# Altium integrated library WE-PD2SR Shielded Power Inductor.IntLib: 20 symbols
Pins are listed as number, name and electrical type; pins without a type are passive.

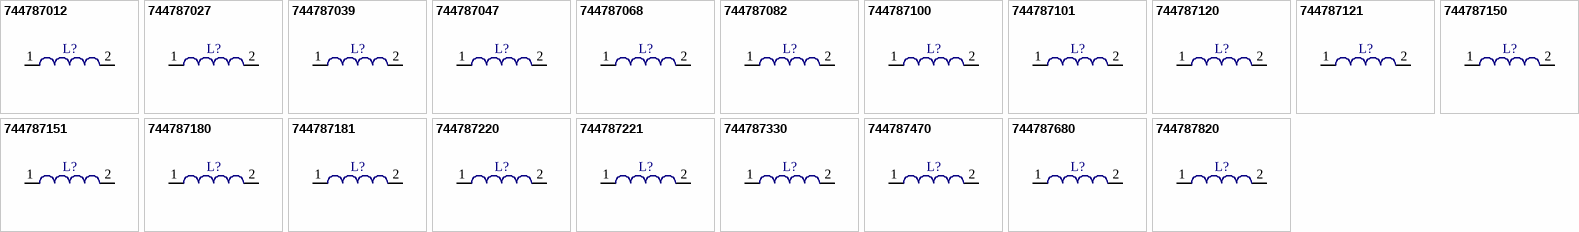
[diagram p0: symbols 744787012 to 744787820]

## 744787012
designator L?
Shielded Power Inductor WE-PD2SR, L=1.2 µH; PartNumber: 744787012; Inductance: 1.2 µH; PackageReference: WE-PD2SR 7850; ComponentLink1Description: Manufacturer URL; ComponentLink1URL: http://www.we-online.com; ComponentLink2Description: Datasheet; ComponentLink2URL: http://www.we-online.de/katalog/media/pdf/744787012.pdf
footprint WE-PD2SR 7850 (Chip Inductor, 2-Leads, Body 7.8x7.0mm, IPC Medium Density)
pins: 1, 2

## 744787027
designator L?
Shielded Power Inductor WE-PD2SR, L=2.7 µH; PartNumber: 744787027; Inductance: 2.7 µH; PackageReference: WE-PD2SR 7850; ComponentLink1Description: Manufacturer URL; ComponentLink1URL: http://www.we-online.com; ComponentLink2Description: Datasheet; ComponentLink2URL: http://www.we-online.de/katalog/media/pdf/744787027.pdf
footprint WE-PD2SR 7850 (Chip Inductor, 2-Leads, Body 7.8x7.0mm, IPC Medium Density)
pins: 1, 2

## 744787039
designator L?
Shielded Power Inductor WE-PD2SR, L=3.9 µH; PartNumber: 744787039; Inductance: 3.9 µH; PackageReference: WE-PD2SR 7850; ComponentLink1Description: Manufacturer URL; ComponentLink1URL: http://www.we-online.com; ComponentLink2Description: Datasheet; ComponentLink2URL: http://www.we-online.de/katalog/media/pdf/744787039.pdf
footprint WE-PD2SR 7850 (Chip Inductor, 2-Leads, Body 7.8x7.0mm, IPC Medium Density)
pins: 1, 2

## 744787047
designator L?
Shielded Power Inductor WE-PD2SR, L=4.7 µH; PartNumber: 744787047; Inductance: 4.7 µH; PackageReference: WE-PD2SR 7850; ComponentLink1Description: Manufacturer URL; ComponentLink1URL: http://www.we-online.com; ComponentLink2Description: Datasheet; ComponentLink2URL: http://www.we-online.de/katalog/media/pdf/744787047.pdf
footprint WE-PD2SR 7850 (Chip Inductor, 2-Leads, Body 7.8x7.0mm, IPC Medium Density)
pins: 1, 2

## 744787068
designator L?
Shielded Power Inductor WE-PD2SR, L=6.8 µH; PartNumber: 744787068; Inductance: 6.8 µH; PackageReference: WE-PD2SR 7850; ComponentLink1Description: Manufacturer URL; ComponentLink1URL: http://www.we-online.com; ComponentLink2Description: Datasheet; ComponentLink2URL: http://www.we-online.de/katalog/media/pdf/744787068.pdf
footprint WE-PD2SR 7850 (Chip Inductor, 2-Leads, Body 7.8x7.0mm, IPC Medium Density)
pins: 1, 2

## 744787082
designator L?
Shielded Power Inductor WE-PD2SR, L=8.2 µH; PartNumber: 744787082; Inductance: 8.2 µH; PackageReference: WE-PD2SR 7850; ComponentLink1Description: Manufacturer URL; ComponentLink1URL: http://www.we-online.com; ComponentLink2Description: Datasheet; ComponentLink2URL: http://www.we-online.de/katalog/media/pdf/744787082.pdf
footprint WE-PD2SR 7850 (Chip Inductor, 2-Leads, Body 7.8x7.0mm, IPC Medium Density)
pins: 1, 2

## 744787100
designator L?
Shielded Power Inductor WE-PD2SR, L=10.0 µH; PartNumber: 744787100; Inductance: 10.0 µH; PackageReference: WE-PD2SR 7850; ComponentLink1Description: Manufacturer URL; ComponentLink1URL: http://www.we-online.com; ComponentLink2Description: Datasheet; ComponentLink2URL: http://www.we-online.de/katalog/media/pdf/744787100.pdf
footprint WE-PD2SR 7850 (Chip Inductor, 2-Leads, Body 7.8x7.0mm, IPC Medium Density)
pins: 1, 2

## 744787101
designator L?
Shielded Power Inductor WE-PD2SR, L=100.0 µH; PartNumber: 744787101; PackageReference: WE-PD2SR 7850; Inductance: 100.0 µH; ComponentLink1Description: Manufacturer URL; ComponentLink1URL: http://www.we-online.com; ComponentLink2Description: Datasheet; ComponentLink2URL: http://www.we-online.de/katalog/media/pdf/744787101.pdf
footprint WE-PD2SR 7850 (Chip Inductor, 2-Leads, Body 7.8x7.0mm, IPC Medium Density)
pins: 1, 2

## 744787120
designator L?
Shielded Power Inductor WE-PD2SR, L=12.0 µH; PartNumber: 744787120; Inductance: 12.0 µH; PackageReference: WE-PD2SR 7850; ComponentLink1Description: Manufacturer URL; ComponentLink1URL: http://www.we-online.com; ComponentLink2Description: Datasheet; ComponentLink2URL: http://www.we-online.de/katalog/media/pdf/744787120.pdf
footprint WE-PD2SR 7850 (Chip Inductor, 2-Leads, Body 7.8x7.0mm, IPC Medium Density)
pins: 1, 2

## 744787121
designator L?
Shielded Power Inductor WE-PD2SR, L=120.0 µH; PartNumber: 744787121; PackageReference: WE-PD2SR 7850; Inductance: 120.0 µH; ComponentLink1Description: Manufacturer URL; ComponentLink1URL: http://www.we-online.com; ComponentLink2Description: Datasheet; ComponentLink2URL: http://www.we-online.de/katalog/media/pdf/744787121.pdf
footprint WE-PD2SR 7850 (Chip Inductor, 2-Leads, Body 7.8x7.0mm, IPC Medium Density)
pins: 1, 2

## 744787150
designator L?
Shielded Power Inductor WE-PD2SR, L=15.0 µH; PartNumber: 744787150; Inductance: 15.0 µH; PackageReference: WE-PD2SR 7850; ComponentLink1Description: Manufacturer URL; ComponentLink1URL: http://www.we-online.com; ComponentLink2Description: Datasheet; ComponentLink2URL: http://www.we-online.de/katalog/media/pdf/744787150.pdf
footprint WE-PD2SR 7850 (Chip Inductor, 2-Leads, Body 7.8x7.0mm, IPC Medium Density)
pins: 1, 2

## 744787151
designator L?
Shielded Power Inductor WE-PD2SR, L=150.0 µH; PartNumber: 744787151; PackageReference: WE-PD2SR 7850; Inductance: 150.0 µH; ComponentLink1Description: Manufacturer URL; ComponentLink1URL: http://www.we-online.com; ComponentLink2Description: Datasheet; ComponentLink2URL: http://www.we-online.de/katalog/media/pdf/744787151.pdf
footprint WE-PD2SR 7850 (Chip Inductor, 2-Leads, Body 7.8x7.0mm, IPC Medium Density)
pins: 1, 2

## 744787180
designator L?
Shielded Power Inductor WE-PD2SR, L=18.0 µH; PartNumber: 744787180; Inductance: 18.0 µH; PackageReference: WE-PD2SR 7850; ComponentLink1Description: Manufacturer URL; ComponentLink1URL: http://www.we-online.com; ComponentLink2Description: Datasheet; ComponentLink2URL: http://www.we-online.de/katalog/media/pdf/744787180.pdf
footprint WE-PD2SR 7850 (Chip Inductor, 2-Leads, Body 7.8x7.0mm, IPC Medium Density)
pins: 1, 2

## 744787181
designator L?
Shielded Power Inductor WE-PD2SR, L=180.0 µH; PartNumber: 744787181; PackageReference: WE-PD2SR 7850; Inductance: 180.0 µH; ComponentLink1Description: Manufacturer URL; ComponentLink1URL: http://www.we-online.com; ComponentLink2Description: Datasheet; ComponentLink2URL: http://www.we-online.de/katalog/media/pdf/744787181.pdf
footprint WE-PD2SR 7850 (Chip Inductor, 2-Leads, Body 7.8x7.0mm, IPC Medium Density)
pins: 1, 2

## 744787220
designator L?
Shielded Power Inductor WE-PD2SR, L=22.0 µH; PartNumber: 744787220; Inductance: 22.0 µH; PackageReference: WE-PD2SR 7850; ComponentLink1Description: Manufacturer URL; ComponentLink1URL: http://www.we-online.com; ComponentLink2Description: Datasheet; ComponentLink2URL: http://www.we-online.de/katalog/media/pdf/744787220.pdf
footprint WE-PD2SR 7850 (Chip Inductor, 2-Leads, Body 7.8x7.0mm, IPC Medium Density)
pins: 1, 2

## 744787221
designator L?
Shielded Power Inductor WE-PD2SR, L=220.0 µH; PartNumber: 744787221; PackageReference: WE-PD2SR 7850; Inductance: 220.0 µH; ComponentLink1Description: Manufacturer URL; ComponentLink1URL: http://www.we-online.com; ComponentLink2Description: Datasheet; ComponentLink2URL: http://www.we-online.de/katalog/media/pdf/744787221.pdf
footprint WE-PD2SR 7850 (Chip Inductor, 2-Leads, Body 7.8x7.0mm, IPC Medium Density)
pins: 1, 2

## 744787330
designator L?
Shielded Power Inductor WE-PD2SR, L=33.0 µH; PartNumber: 744787330; Inductance: 33.0 µH; PackageReference: WE-PD2SR 7850; ComponentLink1Description: Manufacturer URL; ComponentLink1URL: http://www.we-online.com; ComponentLink2Description: Datasheet; ComponentLink2URL: http://www.we-online.de/katalog/media/pdf/744787330.pdf
footprint WE-PD2SR 7850 (Chip Inductor, 2-Leads, Body 7.8x7.0mm, IPC Medium Density)
pins: 1, 2

## 744787470
designator L?
Shielded Power Inductor WE-PD2SR, L=47.0 µH; PartNumber: 744787470; Inductance: 47.0 µH; PackageReference: WE-PD2SR 7850; ComponentLink1Description: Manufacturer URL; ComponentLink1URL: http://www.we-online.com; ComponentLink2Description: Datasheet; ComponentLink2URL: http://www.we-online.de/katalog/media/pdf/744787470.pdf
footprint WE-PD2SR 7850 (Chip Inductor, 2-Leads, Body 7.8x7.0mm, IPC Medium Density)
pins: 1, 2

## 744787680
designator L?
Shielded Power Inductor WE-PD2SR, L=68.0 µH; PartNumber: 744787680; Inductance: 68.0 µH; PackageReference: WE-PD2SR 7850; ComponentLink1Description: Manufacturer URL; ComponentLink1URL: http://www.we-online.com; ComponentLink2Description: Datasheet; ComponentLink2URL: http://www.we-online.de/katalog/media/pdf/744787680.pdf
footprint WE-PD2SR 7850 (Chip Inductor, 2-Leads, Body 7.8x7.0mm, IPC Medium Density)
pins: 1, 2

## 744787820
designator L?
Shielded Power Inductor WE-PD2SR, L=82.0 µH; PartNumber: 744787820; Inductance: 82.0 µH; PackageReference: WE-PD2SR 7850; ComponentLink1Description: Manufacturer URL; ComponentLink1URL: http://www.we-online.com; ComponentLink2Description: Datasheet; ComponentLink2URL: http://www.we-online.de/katalog/media/pdf/744787820.pdf
footprint WE-PD2SR 7850 (Chip Inductor, 2-Leads, Body 7.8x7.0mm, IPC Medium Density)
pins: 1, 2